# Altium footprint library Miscellaneous Devices LC.PcbLib: 559 footprints (part 8 of 35)
Each footprint in its own frame and in the unit in brackets; x right, y up, seen from the top. Pads: shape width x height; smd on the part's side, far side on the other; paste and mask are expansions set on the pad; w line width, h text height; cw(c..) or ccw(c..) is an arc to the next point about the centre after c.
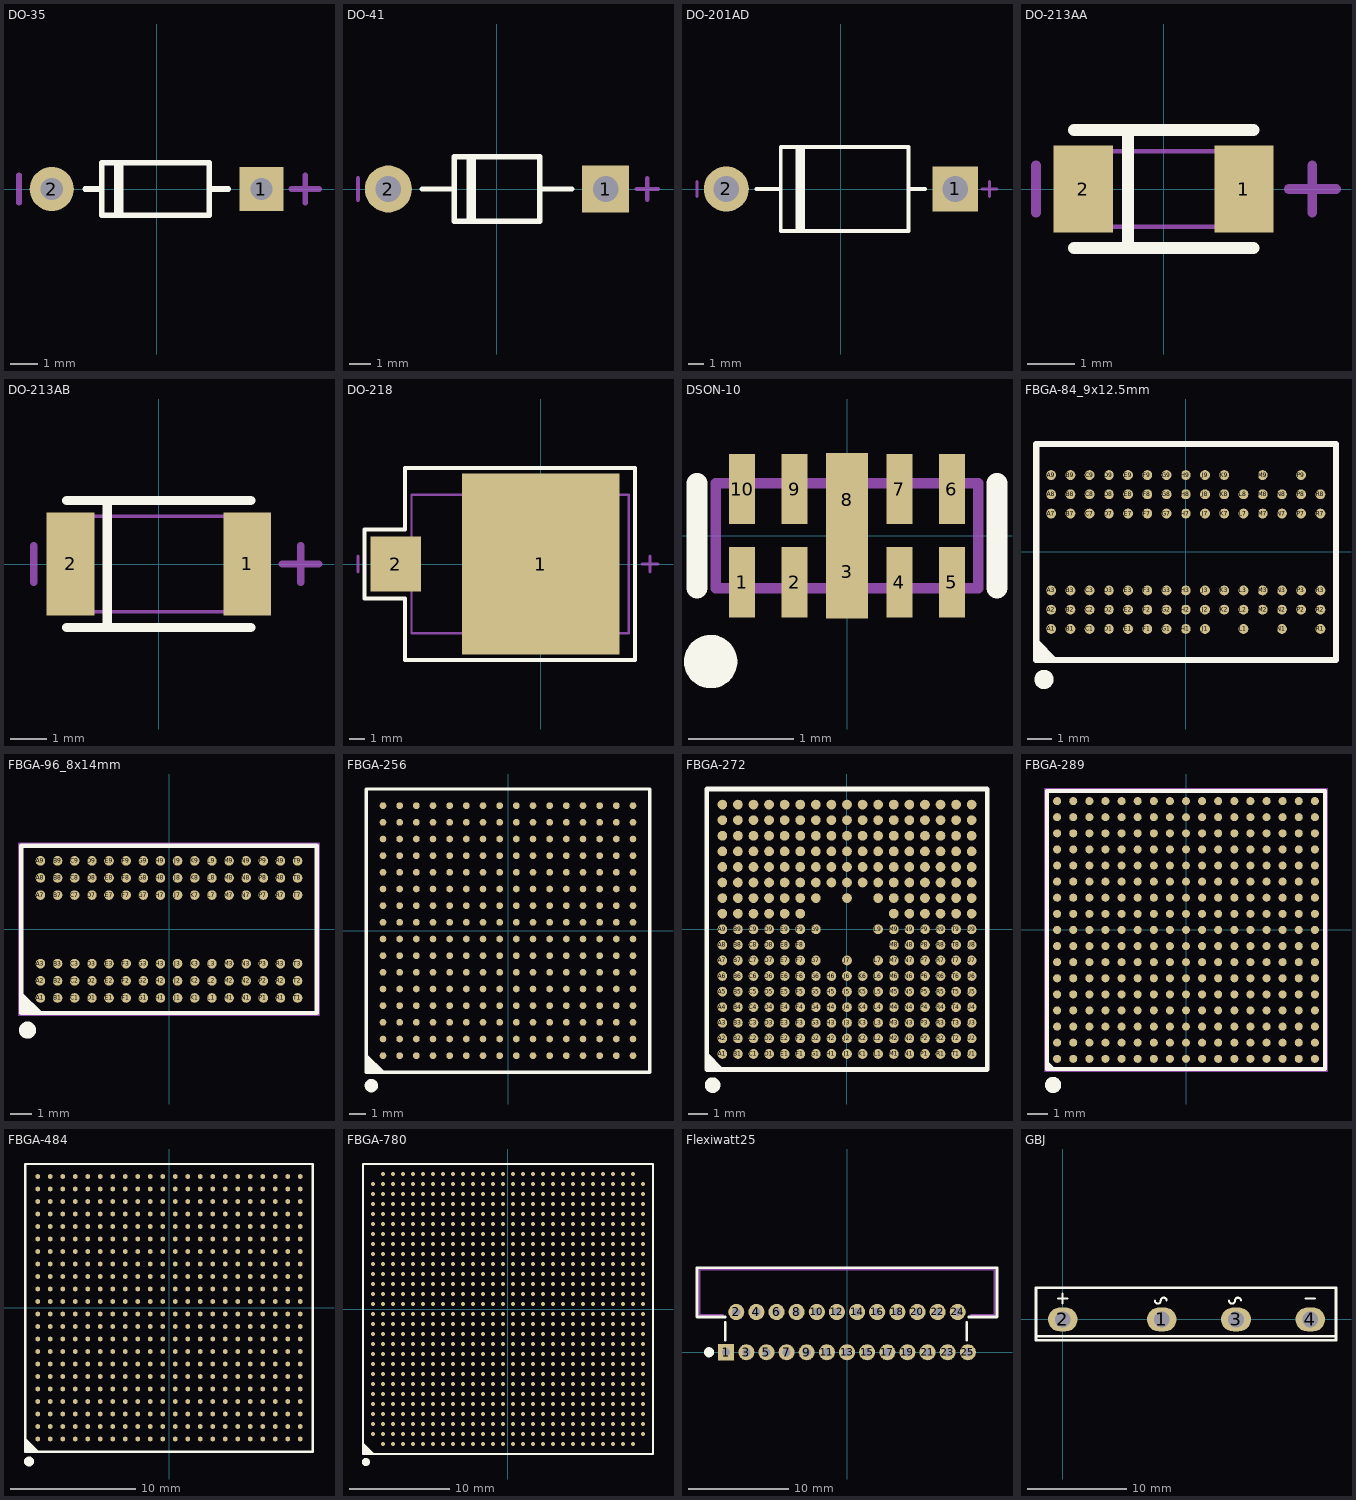
[diagram p7: the footprints below, top view; thin cyan lines are the x and y axes]

## DO-35 [mm]
pads (2):
  rect 1.6x1.6 hole 0.8: 1(3.81,0)
  round 1.6 hole 0.8: 2(-3.81,0)
Top Overlay:
  lines w0.2: -2.6,0 -2.001,0 ; -1.448,-0.95 -1.448,0.95 ; -1.3,-0.95 -1.3,0.95 ; 1.899,-0.95 -2.001,-0.95 -2.001,0.95 1.899,0.95 ; 1.911,-0.95 1.911,0.95 ; 1.911,0 2.6,0
Mechanical 15:
  lines w0.203: -5,-0.5 -5,0.5 ; 4.9,0 5.9,0 ; 5.4,-0.5 5.4,0.5
3D body "DO-35.STEP": height 1.92, standoff -1.9, extent -4.098,-0.888 4.072,0.914

## DO-41 [mm]
pads (2):
  rect 2.2x2.2 hole 1.2: 1(5.08,0)
  round 2.2 hole 1.2: 2(-5.08,0)
Top Overlay:
  lines w0.254: -3.5,0 -2,0 ; -1.3,-1.4 -1.3,1.5 ; -1.1,-1.5 -1.1,1.4 ; 2,0 3.5,0 ; -2,-1.5 -2,1.5 2,1.5 2,-1.5 -2,-1.5
Mechanical 15:
  lines w0.203: -6.5,-0.5 -6.5,0.5 ; 6.53,0 7.53,0 ; 7.03,-0.5 7.03,0.5
3D body "DO-41.STEP": height 3.35, standoff -2, extent -5.51,-1.35 5.51,1.35

## DO-201AD [mm]
pads (2):
  rect 3x3 hole 1.7: 1(7.62,0)
  round 3 hole 1.7: 2(-7.62,0)
Top Overlay:
  lines w0.254: -5.6,0 -4,0 ; -2.9,-2.8 -2.9,2.8 ; -2.7,-2.8 -2.7,2.8 ; -2.5,-2.8 -2.5,2.8 ; 4.5,0 5.6,0 ; -4,-2.8 4.5,-2.8 4.5,2.8 -4,2.8 -4,-2.8
Mechanical 15:
  lines w0.203: -9.57,-0.5 -9.57,0.5 ; 9.4,0 10.4,0 ; 9.9,-0.5 9.9,0.5
3D body "DO-201AD.STEP": height 6.6, standoff -5, extent -8.28,-2.8 8.28,2.8

## DO-213AA [mm]
pads (2):
  rect 1.25x1.85 smd: 1(1.7,0) 2(-1.7,0)
Top Overlay:
  lines w0.254: -1.9,-1.25 1.9,-1.25 ; -1.9,1.25 1.9,1.25 ; -0.75,-1.25 -0.75,1.25
Mechanical 13:
  lines w0.1: -1.8,-0.8 -1.8,0.8 1.8,0.8 1.8,-0.8 -1.8,-0.8
Mechanical 15:
  lines w0.203: -2.7,-0.5 -2.7,0.5 ; 2.65,0 3.65,0 ; 3.15,-0.5 3.15,0.5

## DO-213AB [mm]
pads (2):
  rect 1.3x2.8 smd: 1(2.4,0) 2(-2.4,0)
Top Overlay:
  lines w0.254: -2.5,-1.725 2.5,-1.725 ; -2.5,1.725 2.5,1.725 ; -1.4,-1.725 -1.4,1.7
Mechanical 13:
  lines w0.1: -2.5,-1.3 2.5,-1.3 2.5,1.3 -2.5,1.3 -2.5,-1.3
Mechanical 15:
  lines w0.203: -3.4,-0.5 -3.4,0.5 ; 3.35,0 4.35,0 ; 3.85,-0.5 3.85,0.5

## DO-218 [mm] "=DO-218AB"
pads (2):
  rect 10x11.5 smd: 1(0,0)
  rect 3.2x3.5 smd: 2(-9.2,0)
Top Overlay:
  lines w0.254: -11.2,-2.2 -11.2,2.2 -8.6,2.2 -8.6,6.1 6,6.1 6,-6.1 -8.6,-6.1 -8.6,-2.2 -11.2,-2.2
Mechanical 13:
  lines w0.152: -8.2,-4.4 -8.2,4.4 5.6,4.4 5.6,-4.4 -8.2,-4.4
Mechanical 15:
  lines w0.203: -11.6,-0.5 -11.6,0.5 ; 6.45,0 7.45,0 ; 6.95,-0.5 6.95,0.5
3D body "User Library-DO-218AB.STEP": height 5, standoff 0, extent -9.8,-5 5.629,5

## DSON-10 [mm]
pads (10):
  rect 0.25x0.67 smd mask+0.051: 1(-1,-0.445) 2(-0.5,-0.445) 4(0.5,-0.445) 5(1,-0.445) 6(1,0.445) 7(0.5,0.445) 9(-0.5,0.445) 10(-1,0.445)
  rect 0.4x0.889 smd mask+0.051: 3(0,-0.343) 8(0,0.343)
Top Overlay:
  circle w0.254: c-1.3,-1.2 r0.127
  lines w0.2: -1.43,-0.5 -1.43,0.5 ; 1.43,-0.5 1.43,0.5
Mechanical 13:
  lines w0.1: -1.25,-0.5 -1.25,0.5 1.25,0.5 1.25,-0.5 -1.25,-0.5

## FBGA-84_9x12.5mm [mm]
pads (84):
  round 0.41 smd mask+0.051: A1(-5.6,-3.2) A2(-5.6,-2.4) A3(-5.6,-1.6) A7(-5.6,1.6) A8(-5.6,2.4) A9(-5.6,3.2) B1(-4.8,-3.2) B2(-4.8,-2.4) B3(-4.8,-1.6) B7(-4.8,1.6) B8(-4.8,2.4) B9(-4.8,3.2) C1(-4,-3.2) C2(-4,-2.4) C3(-4,-1.6) C7(-4,1.6) C8(-4,2.4) C9(-4,3.2) D1(-3.2,-3.2) D2(-3.2,-2.4) D3(-3.2,-1.6) D7(-3.2,1.6) D8(-3.2,2.4) D9(-3.2,3.2) E1(-2.4,-3.2) E2(-2.4,-2.4) E3(-2.4,-1.6) E7(-2.4,1.6) E8(-2.4,2.4) E9(-2.4,3.2) F1(-1.6,-3.2) F2(-1.6,-2.4) F3(-1.6,-1.6) F7(-1.6,1.6) F8(-1.6,2.4) F9(-1.6,3.2) G1(-0.8,-3.2) G2(-0.8,-2.4) G3(-0.8,-1.6) G7(-0.8,1.6) G8(-0.8,2.4) G9(-0.8,3.2) H1(0,-3.2) H2(0,-2.4) H3(0,-1.6) H7(0,1.6) H8(0,2.4) H9(0,3.2) J1(0.8,-3.2) J2(0.8,-2.4) J3(0.8,-1.6) J7(0.8,1.6) J8(0.8,2.4) J9(0.8,3.2) K2(1.6,-2.4) K3(1.6,-1.6) K7(1.6,1.6) K8(1.6,2.4) K9(1.6,3.2) L1(2.4,-3.2) L2(2.4,-2.4) L3(2.4,-1.6) L7(2.4,1.6) L8(2.4,2.4) M2(3.2,-2.4) M3(3.2,-1.6) M7(3.2,1.6) M8(3.2,2.4) M9(3.2,3.2) N1(4,-3.2) N2(4,-2.4) N3(4,-1.6) N7(4,1.6) N8(4,2.4) P2(4.8,-2.4) P3(4.8,-1.6) P7(4.8,1.6) P8(4.8,2.4) P9(4.8,3.2) R1(5.6,-3.2) R2(5.6,-2.4) R3(5.6,-1.6) R7(5.6,1.6) R8(5.6,2.4)
Top Overlay:
  circle w0.4: c-5.9,-5.3 r0.2
  region: -6.231,-4.5 -5.3,-4.5 -6.227,-3.573 -6.231,-3.573
  lines w0.254: -6.223,-4.5 6.25,-4.5 6.25,4.5 -6.223,4.5 -6.223,-4.5

## FBGA-96_8x14mm [mm]
pads (96):
  round 0.45 smd mask+0.051: A1(-6,-3.2) A2(-6,-2.4) A3(-6,-1.6) A7(-6,1.6) A8(-6,2.4) A9(-6,3.2) B1(-5.2,-3.2) B2(-5.2,-2.4) B3(-5.2,-1.6) B7(-5.2,1.6) B8(-5.2,2.4) B9(-5.2,3.2) C1(-4.4,-3.2) C2(-4.4,-2.4) C3(-4.4,-1.6) C7(-4.4,1.6) C8(-4.4,2.4) C9(-4.4,3.2) D1(-3.6,-3.2) D2(-3.6,-2.4) D3(-3.6,-1.6) D7(-3.6,1.6) D8(-3.6,2.4) D9(-3.6,3.2) E1(-2.8,-3.2) E2(-2.8,-2.4) E3(-2.8,-1.6) E7(-2.8,1.6) E8(-2.8,2.4) E9(-2.8,3.2) F1(-2,-3.2) F2(-2,-2.4) F3(-2,-1.6) F7(-2,1.6) F8(-2,2.4) F9(-2,3.2) G1(-1.2,-3.2) G2(-1.2,-2.4) G3(-1.2,-1.6) G7(-1.2,1.6) G8(-1.2,2.4) G9(-1.2,3.2) H1(-0.4,-3.2) H2(-0.4,-2.4) H3(-0.4,-1.6) H7(-0.4,1.6) H8(-0.4,2.4) H9(-0.4,3.2) J1(0.4,-3.2) J2(0.4,-2.4) J3(0.4,-1.6) J7(0.4,1.6) J8(0.4,2.4) J9(0.4,3.2) K1(1.2,-3.2) K2(1.2,-2.4) K3(1.2,-1.6) K7(1.2,1.6) K8(1.2,2.4) K9(1.2,3.2) L1(2,-3.2) L2(2,-2.4) L3(2,-1.6) L7(2,1.6) L8(2,2.4) L9(2,3.2) M1(2.8,-3.2) M2(2.8,-2.4) M3(2.8,-1.6) M7(2.8,1.6) M8(2.8,2.4) M9(2.8,3.2) N1(3.6,-3.2) N2(3.6,-2.4) N3(3.6,-1.6) N7(3.6,1.6) N8(3.6,2.4) N9(3.6,3.2) P1(4.4,-3.2) P2(4.4,-2.4) P3(4.4,-1.6) P7(4.4,1.6) P8(4.4,2.4) P9(4.4,3.2) R1(5.2,-3.2) R2(5.2,-2.4) R3(5.2,-1.6) R7(5.2,1.6) R8(5.2,2.4) R9(5.2,3.2) T1(6,-3.2) T2(6,-2.4) T3(6,-1.6) T7(6,1.6) T8(6,2.4) T9(6,3.2)
Top Overlay:
  circle w0.4: c-6.6,-4.7 r0.2
  region: -6.9,-2.9 -5.9,-3.9 -6.9,-3.9
  lines w0.2: -6.9,-3.9 6.9,-3.9 6.9,3.9 -6.9,3.9 -6.9,-3.9
Mechanical 13:
  lines w0.1: -7,-4 -7,4 7,4 7,-4 -7,-4

## FBGA-256 [mm]
pads (256):
  round 0.4 smd mask+0.051: A1(-7.5,-7.5) A2(-7.5,-6.5) A3(-7.5,-5.5) A4(-7.5,-4.5) A5(-7.5,-3.5) A6(-7.5,-2.5) A7(-7.5,-1.5) A8(-7.5,-0.5) A9(-7.5,0.5) A10(-7.5,1.5) A11(-7.5,2.5) A12(-7.5,3.5) A13(-7.5,4.5) A14(-7.5,5.5) A15(-7.5,6.5) A16(-7.5,7.5) B1(-6.5,-7.5) B2(-6.5,-6.5) B3(-6.5,-5.5) B4(-6.5,-4.5) B5(-6.5,-3.5) B6(-6.5,-2.5) B7(-6.5,-1.5) B8(-6.5,-0.5) B9(-6.5,0.5) B10(-6.5,1.5) B11(-6.5,2.5) B12(-6.5,3.5) B13(-6.5,4.5) B14(-6.5,5.5) B15(-6.5,6.5) B16(-6.5,7.5) C1(-5.5,-7.5) C2(-5.5,-6.5) C3(-5.5,-5.5) C4(-5.5,-4.5) C5(-5.5,-3.5) C6(-5.5,-2.5) C7(-5.5,-1.5) C8(-5.5,-0.5) C9(-5.5,0.5) C10(-5.5,1.5) C11(-5.5,2.5) C12(-5.5,3.5) C13(-5.5,4.5) C14(-5.5,5.5) C15(-5.5,6.5) C16(-5.5,7.5) D1(-4.5,-7.5) D2(-4.5,-6.5) D3(-4.5,-5.5) D4(-4.5,-4.5) D5(-4.5,-3.5) D6(-4.5,-2.5) D7(-4.5,-1.5) D8(-4.5,-0.5) D9(-4.5,0.5) D10(-4.5,1.5) D11(-4.5,2.5) D12(-4.5,3.5) D13(-4.5,4.5) D14(-4.5,5.5) D15(-4.5,6.5) D16(-4.5,7.5) E1(-3.5,-7.5) E2(-3.5,-6.5) E3(-3.5,-5.5) E4(-3.5,-4.5) E5(-3.5,-3.5) E6(-3.5,-2.5) E7(-3.5,-1.5) E8(-3.5,-0.5) E9(-3.5,0.5) E10(-3.5,1.5) E11(-3.5,2.5) E12(-3.5,3.5) E13(-3.5,4.5) E14(-3.5,5.5) E15(-3.5,6.5) E16(-3.5,7.5) F1(-2.5,-7.5) F2(-2.5,-6.5) F3(-2.5,-5.5) F4(-2.5,-4.5) F5(-2.5,-3.5) F6(-2.5,-2.5) F7(-2.5,-1.5) F8(-2.5,-0.5) F9(-2.5,0.5) F10(-2.5,1.5) F11(-2.5,2.5) F12(-2.5,3.5) F13(-2.5,4.5) F14(-2.5,5.5) F15(-2.5,6.5) F16(-2.5,7.5) G1(-1.5,-7.5) G2(-1.5,-6.5) G3(-1.5,-5.5) G4(-1.5,-4.5) G5(-1.5,-3.5) G6(-1.5,-2.5) G7(-1.5,-1.5) G8(-1.5,-0.5) G9(-1.5,0.5) G10(-1.5,1.5) G11(-1.5,2.5) G12(-1.5,3.5) G13(-1.5,4.5) G14(-1.5,5.5) G15(-1.5,6.5) G16(-1.5,7.5) H1(-0.5,-7.5) H2(-0.5,-6.5) H3(-0.5,-5.5) H4(-0.5,-4.5) H5(-0.5,-3.5) H6(-0.5,-2.5) H7(-0.5,-1.5) H8(-0.5,-0.5) H9(-0.5,0.5) H10(-0.5,1.5) H11(-0.5,2.5) H12(-0.5,3.5) H13(-0.5,4.5) H14(-0.5,5.5) H15(-0.5,6.5) H16(-0.5,7.5) J1(0.5,-7.5) J2(0.5,-6.5) J3(0.5,-5.5) J4(0.5,-4.5) J5(0.5,-3.5) J6(0.5,-2.5) J7(0.5,-1.5) J8(0.5,-0.5) J9(0.5,0.5) J10(0.5,1.5) J11(0.5,2.5) J12(0.5,3.5) J13(0.5,4.5) J14(0.5,5.5) J15(0.5,6.5) J16(0.5,7.5) K1(1.5,-7.5) K2(1.5,-6.5) K3(1.5,-5.5) K4(1.5,-4.5) K5(1.5,-3.5) K6(1.5,-2.5) K7(1.5,-1.5) K8(1.5,-0.5) K9(1.5,0.5) K10(1.5,1.5) K11(1.5,2.5) K12(1.5,3.5) K13(1.5,4.5) K14(1.5,5.5) K15(1.5,6.5) K16(1.5,7.5) L1(2.5,-7.5) L2(2.5,-6.5) L3(2.5,-5.5) L4(2.5,-4.5) L5(2.5,-3.5) L6(2.5,-2.5) L7(2.5,-1.5) L8(2.5,-0.5) L9(2.5,0.5) L10(2.5,1.5) L11(2.5,2.5) L12(2.5,3.5) L13(2.5,4.5) L14(2.5,5.5) L15(2.5,6.5) L16(2.5,7.5) M1(3.5,-7.5) M2(3.5,-6.5) M3(3.5,-5.5) M4(3.5,-4.5) M5(3.5,-3.5) M6(3.5,-2.5) M7(3.5,-1.5) M8(3.5,-0.5) M9(3.5,0.5) M10(3.5,1.5) M11(3.5,2.5) M12(3.5,3.5) M13(3.5,4.5) M14(3.5,5.5) M15(3.5,6.5) M16(3.5,7.5) N1(4.5,-7.5) N2(4.5,-6.5) N3(4.5,-5.5) N4(4.5,-4.5) N5(4.5,-3.5) N6(4.5,-2.5) N7(4.5,-1.5) N8(4.5,-0.5) N9(4.5,0.5) N10(4.5,1.5) N11(4.5,2.5) N12(4.5,3.5) N13(4.5,4.5) N14(4.5,5.5) N15(4.5,6.5) N16(4.5,7.5) P1(5.5,-7.5) P2(5.5,-6.5) P3(5.5,-5.5) P4(5.5,-4.5) P5(5.5,-3.5) P6(5.5,-2.5) P7(5.5,-1.5) P8(5.5,-0.5) P9(5.5,0.5) P10(5.5,1.5) P11(5.5,2.5) P12(5.5,3.5) P13(5.5,4.5) P14(5.5,5.5) P15(5.5,6.5) P16(5.5,7.5) R1(6.5,-7.5) R2(6.5,-6.5) R3(6.5,-5.5) R4(6.5,-4.5) R5(6.5,-3.5) R6(6.5,-2.5) R7(6.5,-1.5) R8(6.5,-0.5) R9(6.5,0.5) R10(6.5,1.5) R11(6.5,2.5) R12(6.5,3.5) R13(6.5,4.5) R14(6.5,5.5) R15(6.5,6.5) R16(6.5,7.5) T1(7.5,-7.5) T2(7.5,-6.5) T3(7.5,-5.5) T4(7.5,-4.5) T5(7.5,-3.5) T6(7.5,-2.5) T7(7.5,-1.5) T8(7.5,-0.5) T9(7.5,0.5) T10(7.5,1.5) T11(7.5,2.5) T12(7.5,3.5) T13(7.5,4.5) T14(7.5,5.5) T15(7.5,6.5) T16(7.5,7.5)
Top Overlay:
  circle w0.4: c-8.2,-9.3 r0.2
  region: -8.5,-7.5 -7.5,-8.5 -8.5,-8.5
  lines w0.2: -8.5,-7.5 -7.5,-8.5 ; -8.5,-8.5 8.5,-8.5 8.5,8.5 -8.5,8.5 -8.5,-8.5
Mechanical 13:
  lines w0.1: -8.5,-8.5 8.5,-8.5 8.5,8.5 -8.5,8.5 -8.5,-8.5

## FBGA-272 [mm]
pads (272):
  round 0.5 smd mask+0.051: A1(-6.4,-6.4) A2(-6.4,-5.6) A3(-6.4,-4.8) A4(-6.4,-4) A5(-6.4,-3.2) A6(-6.4,-2.4) A7(-6.4,-1.6) A8(-6.4,-0.8) A9(-6.4,0) A10(-6.4,0.8) A11(-6.4,1.6) A12(-6.4,2.4) A13(-6.4,3.2) A14(-6.4,4) A15(-6.4,4.8) A16(-6.4,5.6) A17(-6.4,6.4) B1(-5.6,-6.4) B2(-5.6,-5.6) B3(-5.6,-4.8) B4(-5.6,-4) B5(-5.6,-3.2) B6(-5.6,-2.4) B7(-5.6,-1.6) B8(-5.6,-0.8) B9(-5.6,0) B10(-5.6,0.8) B11(-5.6,1.6) B12(-5.6,2.4) B13(-5.6,3.2) B14(-5.6,4) B15(-5.6,4.8) B16(-5.6,5.6) B17(-5.6,6.4) C1(-4.8,-6.4) C2(-4.8,-5.6) C3(-4.8,-4.8) C4(-4.8,-4) C5(-4.8,-3.2) C6(-4.8,-2.4) C7(-4.8,-1.6) C8(-4.8,-0.8) C9(-4.8,0) C10(-4.8,0.8) C11(-4.8,1.6) C12(-4.8,2.4) C13(-4.8,3.2) C14(-4.8,4) C15(-4.8,4.8) C16(-4.8,5.6) C17(-4.8,6.4) D1(-4,-6.4) D2(-4,-5.6) D3(-4,-4.8) D4(-4,-4) D5(-4,-3.2) D6(-4,-2.4) D7(-4,-1.6) D8(-4,-0.8) D9(-4,0) D10(-4,0.8) D11(-4,1.6) D12(-4,2.4) D13(-4,3.2) D14(-4,4) D15(-4,4.8) D16(-4,5.6) D17(-4,6.4) E1(-3.2,-6.4) E2(-3.2,-5.6) E3(-3.2,-4.8) E4(-3.2,-4) E5(-3.2,-3.2) E6(-3.2,-2.4) E7(-3.2,-1.6) E8(-3.2,-0.8) E9(-3.2,0) E10(-3.2,0.8) E11(-3.2,1.6) E12(-3.2,2.4) E13(-3.2,3.2) E14(-3.2,4) E15(-3.2,4.8) E16(-3.2,5.6) E17(-3.2,6.4) F1(-2.4,-6.4) F2(-2.4,-5.6) F3(-2.4,-4.8) F4(-2.4,-4) F5(-2.4,-3.2) F6(-2.4,-2.4) F7(-2.4,-1.6) F8(-2.4,-0.8) F9(-2.4,0) F10(-2.4,0.8) F11(-2.4,1.6) F12(-2.4,2.4) F13(-2.4,3.2) F14(-2.4,4) F15(-2.4,4.8) F16(-2.4,5.6) F17(-2.4,6.4) G1(-1.6,-6.4) G2(-1.6,-5.6) G3(-1.6,-4.8) G4(-1.6,-4) G5(-1.6,-3.2) G6(-1.6,-2.4) G7(-1.6,-1.6) G9(-1.6,0) G11(-1.6,1.6) G12(-1.6,2.4) G13(-1.6,3.2) G14(-1.6,4) G15(-1.6,4.8) G16(-1.6,5.6) G17(-1.6,6.4) H1(-0.8,-6.4) H2(-0.8,-5.6) H3(-0.8,-4.8) H4(-0.8,-4) H5(-0.8,-3.2) H6(-0.8,-2.4) H12(-0.8,2.4) H13(-0.8,3.2) H14(-0.8,4) H15(-0.8,4.8) H16(-0.8,5.6) H17(-0.8,6.4) J1(0,-6.4) J2(0,-5.6) J3(0,-4.8) J4(0,-4) J5(0,-3.2) J6(0,-2.4) J7(0,-1.6) J11(0,1.6) J12(0,2.4) J13(0,3.2) J14(0,4) J15(0,4.8) J16(0,5.6) J17(0,6.4) K1(0.8,-6.4) K2(0.8,-5.6) K3(0.8,-4.8) K4(0.8,-4) K5(0.8,-3.2) K6(0.8,-2.4) K12(0.8,2.4) K13(0.8,3.2) K14(0.8,4) K15(0.8,4.8) K16(0.8,5.6) K17(0.8,6.4) L1(1.6,-6.4) L2(1.6,-5.6) L3(1.6,-4.8) L4(1.6,-4) L5(1.6,-3.2) L6(1.6,-2.4) L7(1.6,-1.6) L9(1.6,0) L11(1.6,1.6) L12(1.6,2.4) L13(1.6,3.2) L14(1.6,4) L15(1.6,4.8) L16(1.6,5.6) L17(1.6,6.4) M1(2.4,-6.4) M2(2.4,-5.6) M3(2.4,-4.8) M4(2.4,-4) M5(2.4,-3.2) M6(2.4,-2.4) M7(2.4,-1.6) M8(2.4,-0.8) M9(2.4,0) M10(2.4,0.8) M11(2.4,1.6) M12(2.4,2.4) M13(2.4,3.2) M14(2.4,4) M15(2.4,4.8) M16(2.4,5.6) M17(2.4,6.4) N1(3.2,-6.4) N2(3.2,-5.6) N3(3.2,-4.8) N4(3.2,-4) N5(3.2,-3.2) N6(3.2,-2.4) N7(3.2,-1.6) N8(3.2,-0.8) N9(3.2,0) N10(3.2,0.8) N11(3.2,1.6) N12(3.2,2.4) N13(3.2,3.2) N14(3.2,4) N15(3.2,4.8) N16(3.2,5.6) N17(3.2,6.4) P1(4,-6.4) P2(4,-5.6) P3(4,-4.8) P4(4,-4) P5(4,-3.2) P6(4,-2.4) P7(4,-1.6) P8(4,-0.8) P9(4,0) P10(4,0.8) P11(4,1.6) P12(4,2.4) P13(4,3.2) P14(4,4) P15(4,4.8) P16(4,5.6) P17(4,6.4) R1(4.8,-6.4) R2(4.8,-5.6) R3(4.8,-4.8) R4(4.8,-4) R5(4.8,-3.2) R6(4.8,-2.4) R7(4.8,-1.6) R8(4.8,-0.8) R9(4.8,0) R10(4.8,0.8) R11(4.8,1.6) R12(4.8,2.4) R13(4.8,3.2) R14(4.8,4) R15(4.8,4.8) R16(4.8,5.6) R17(4.8,6.4) T1(5.6,-6.4) T2(5.6,-5.6) T3(5.6,-4.8) T4(5.6,-4) T5(5.6,-3.2) T6(5.6,-2.4) T7(5.6,-1.6) T8(5.6,-0.8) T9(5.6,0) T10(5.6,0.8) T11(5.6,1.6) T12(5.6,2.4) T13(5.6,3.2) T14(5.6,4) T15(5.6,4.8) T16(5.6,5.6) T17(5.6,6.4) U1(6.4,-6.4) U2(6.4,-5.6) U3(6.4,-4.8) U4(6.4,-4) U5(6.4,-3.2) U6(6.4,-2.4) U7(6.4,-1.6) U8(6.4,-0.8) U9(6.4,0) U10(6.4,0.8) U11(6.4,1.6) U12(6.4,2.4) U13(6.4,3.2) U14(6.4,4) U15(6.4,4.8) U16(6.4,5.6) U17(6.4,6.4)
Top Overlay:
  circle w0.4: c-6.899,-7.999 r0.2
  region: -7.199,-7.2 -6.399,-7.2 -6.399,-7.1 -7.099,-6.4 -7.199,-6.4 -7.199,-7.199 -6.599,-7.2
  lines w0.254: -7.199,-7.2 7.2,-7.2 7.2,7.2 -7.2,7.2 -7.2,-7.199

## FBGA-289 [mm]
pads (289):
  round 0.4 smd mask+0.051: A1(-6.4,-6.4) A2(-6.4,-5.6) A3(-6.4,-4.8) A4(-6.4,-4) A5(-6.4,-3.2) A6(-6.4,-2.4) A7(-6.4,-1.6) A8(-6.4,-0.8) A9(-6.4,0) A10(-6.4,0.8) A11(-6.4,1.6) A12(-6.4,2.4) A13(-6.4,3.2) A14(-6.4,4) A15(-6.4,4.8) A16(-6.4,5.6) A17(-6.4,6.4) B1(-5.6,-6.4) B2(-5.6,-5.6) B3(-5.6,-4.8) B4(-5.6,-4) B5(-5.6,-3.2) B6(-5.6,-2.4) B7(-5.6,-1.6) B8(-5.6,-0.8) B9(-5.6,0) B10(-5.6,0.8) B11(-5.6,1.6) B12(-5.6,2.4) B13(-5.6,3.2) B14(-5.6,4) B15(-5.6,4.8) B16(-5.6,5.6) B17(-5.6,6.4) C1(-4.8,-6.4) C2(-4.8,-5.6) C3(-4.8,-4.8) C4(-4.8,-4) C5(-4.8,-3.2) C6(-4.8,-2.4) C7(-4.8,-1.6) C8(-4.8,-0.8) C9(-4.8,0) C10(-4.8,0.8) C11(-4.8,1.6) C12(-4.8,2.4) C13(-4.8,3.2) C14(-4.8,4) C15(-4.8,4.8) C16(-4.8,5.6) C17(-4.8,6.4) D1(-4,-6.4) D2(-4,-5.6) D3(-4,-4.8) D4(-4,-4) D5(-4,-3.2) D6(-4,-2.4) D7(-4,-1.6) D8(-4,-0.8) D9(-4,0) D10(-4,0.8) D11(-4,1.6) D12(-4,2.4) D13(-4,3.2) D14(-4,4) D15(-4,4.8) D16(-4,5.6) D17(-4,6.4) E1(-3.2,-6.4) E2(-3.2,-5.6) E3(-3.2,-4.8) E4(-3.2,-4) E5(-3.2,-3.2) E6(-3.2,-2.4) E7(-3.2,-1.6) E8(-3.2,-0.8) E9(-3.2,0) E10(-3.2,0.8) E11(-3.2,1.6) E12(-3.2,2.4) E13(-3.2,3.2) E14(-3.2,4) E15(-3.2,4.8) E16(-3.2,5.6) E17(-3.2,6.4) F1(-2.4,-6.4) F2(-2.4,-5.6) F3(-2.4,-4.8) F4(-2.4,-4) F5(-2.4,-3.2) F6(-2.4,-2.4) F7(-2.4,-1.6) F8(-2.4,-0.8) F9(-2.4,0) F10(-2.4,0.8) F11(-2.4,1.6) F12(-2.4,2.4) F13(-2.4,3.2) F14(-2.4,4) F15(-2.4,4.8) F16(-2.4,5.6) F17(-2.4,6.4) G1(-1.6,-6.4) G2(-1.6,-5.6) G3(-1.6,-4.8) G4(-1.6,-4) G5(-1.6,-3.2) G6(-1.6,-2.4) G7(-1.6,-1.6) G8(-1.6,-0.8) G9(-1.6,0) G10(-1.6,0.8) G11(-1.6,1.6) G12(-1.6,2.4) G13(-1.6,3.2) G14(-1.6,4) G15(-1.6,4.8) G16(-1.6,5.6) G17(-1.6,6.4) H1(-0.8,-6.4) H2(-0.8,-5.6) H3(-0.8,-4.8) H4(-0.8,-4) H5(-0.8,-3.2) H6(-0.8,-2.4) H7(-0.8,-1.6) H8(-0.8,-0.8) H9(-0.8,0) H10(-0.8,0.8) H11(-0.8,1.6) H12(-0.8,2.4) H13(-0.8,3.2) H14(-0.8,4) H15(-0.8,4.8) H16(-0.8,5.6) H17(-0.8,6.4) J1(0,-6.4) J2(0,-5.6) J3(0,-4.8) J4(0,-4) J5(0,-3.2) J6(0,-2.4) J7(0,-1.6) J8(0,-0.8) J9(0,0) J10(0,0.8) J11(0,1.6) J12(0,2.4) J13(0,3.2) J14(0,4) J15(0,4.8) J16(0,5.6) J17(0,6.4) K1(0.8,-6.4) K2(0.8,-5.6) K3(0.8,-4.8) K4(0.8,-4) K5(0.8,-3.2) K6(0.8,-2.4) K7(0.8,-1.6) K8(0.8,-0.8) K9(0.8,0) K10(0.8,0.8) K11(0.8,1.6) K12(0.8,2.4) K13(0.8,3.2) K14(0.8,4) K15(0.8,4.8) K16(0.8,5.6) K17(0.8,6.4) L1(1.6,-6.4) L2(1.6,-5.6) L3(1.6,-4.8) L4(1.6,-4) L5(1.6,-3.2) L6(1.6,-2.4) L7(1.6,-1.6) L8(1.6,-0.8) L9(1.6,0) L10(1.6,0.8) L11(1.6,1.6) L12(1.6,2.4) L13(1.6,3.2) L14(1.6,4) L15(1.6,4.8) L16(1.6,5.6) L17(1.6,6.4) M1(2.4,-6.4) M2(2.4,-5.6) M3(2.4,-4.8) M4(2.4,-4) M5(2.4,-3.2) M6(2.4,-2.4) M7(2.4,-1.6) M8(2.4,-0.8) M9(2.4,0) M10(2.4,0.8) M11(2.4,1.6) M12(2.4,2.4) M13(2.4,3.2) M14(2.4,4) M15(2.4,4.8) M16(2.4,5.6) M17(2.4,6.4) N1(3.2,-6.4) N2(3.2,-5.6) N3(3.2,-4.8) N4(3.2,-4) N5(3.2,-3.2) N6(3.2,-2.4) N7(3.2,-1.6) N8(3.2,-0.8) N9(3.2,0) N10(3.2,0.8) N11(3.2,1.6) N12(3.2,2.4) N13(3.2,3.2) N14(3.2,4) N15(3.2,4.8) N16(3.2,5.6) N17(3.2,6.4) P1(4,-6.4) P2(4,-5.6) P3(4,-4.8) P4(4,-4) P5(4,-3.2) P6(4,-2.4) P7(4,-1.6) P8(4,-0.8) P9(4,0) P10(4,0.8) P11(4,1.6) P12(4,2.4) P13(4,3.2) P14(4,4) P15(4,4.8) P16(4,5.6) P17(4,6.4) R1(4.8,-6.4) R2(4.8,-5.6) R3(4.8,-4.8) R4(4.8,-4) R5(4.8,-3.2) R6(4.8,-2.4) R7(4.8,-1.6) R8(4.8,-0.8) R9(4.8,0) R10(4.8,0.8) R11(4.8,1.6) R12(4.8,2.4) R13(4.8,3.2) R14(4.8,4) R15(4.8,4.8) R16(4.8,5.6) R17(4.8,6.4) T1(5.6,-6.4) T2(5.6,-5.6) T3(5.6,-4.8) T4(5.6,-4) T5(5.6,-3.2) T6(5.6,-2.4) T7(5.6,-1.6) T8(5.6,-0.8) T9(5.6,0) T10(5.6,0.8) T11(5.6,1.6) T12(5.6,2.4) T13(5.6,3.2) T14(5.6,4) T15(5.6,4.8) T16(5.6,5.6) T17(5.6,6.4) U1(6.4,-6.4) U2(6.4,-5.6) U3(6.4,-4.8) U4(6.4,-4) U5(6.4,-3.2) U6(6.4,-2.4) U7(6.4,-1.6) U8(6.4,-0.8) U9(6.4,0) U10(6.4,0.8) U11(6.4,1.6) U12(6.4,2.4) U13(6.4,3.2) U14(6.4,4) U15(6.4,4.8) U16(6.4,5.6) U17(6.4,6.4)
Top Overlay:
  circle w0.4: c-6.6,-7.7 r0.2
  lines w0.2: -6.9,-6.6 -6.6,-6.9 ; -6.9,-6.9 6.9,-6.9 6.9,6.9 -6.9,6.9 -6.9,-6.9
Mechanical 13:
  lines w0.1: -7,-7 7,-7 7,7 -7,7 -7,-7

## FBGA-484 [mm]
pads (484):
  round 0.38 smd mask+0.051: A1(-10.5,-10.5) A2(-10.5,-9.5) A3(-10.5,-8.5) A4(-10.5,-7.5) A5(-10.5,-6.5) A6(-10.5,-5.5) A7(-10.5,-4.5) A8(-10.5,-3.5) A9(-10.5,-2.5) A10(-10.5,-1.5) A11(-10.5,-0.5) A12(-10.5,0.5) A13(-10.5,1.5) A14(-10.5,2.5) A15(-10.5,3.5) A16(-10.5,4.5) A17(-10.5,5.5) A18(-10.5,6.5) A19(-10.5,7.5) A20(-10.5,8.5) A21(-10.5,9.5) A22(-10.5,10.5) AA1(9.5,-10.5) AA2(9.5,-9.5) AA3(9.5,-8.5) AA4(9.5,-7.5) AA5(9.5,-6.5) AA6(9.5,-5.5) AA7(9.5,-4.5) AA8(9.5,-3.5) AA9(9.5,-2.5) AA10(9.5,-1.5) AA11(9.5,-0.5) AA12(9.5,0.5) AA13(9.5,1.5) AA14(9.5,2.5) AA15(9.5,3.5) AA16(9.5,4.5) AA17(9.5,5.5) AA18(9.5,6.5) AA19(9.5,7.5) AA20(9.5,8.5) AA21(9.5,9.5) AA22(9.5,10.5) AB1(10.5,-10.5) AB2(10.5,-9.5) AB3(10.5,-8.5) AB4(10.5,-7.5) AB5(10.5,-6.5) AB6(10.5,-5.5) AB7(10.5,-4.5) AB8(10.5,-3.5) AB9(10.5,-2.5) AB10(10.5,-1.5) AB11(10.5,-0.5) AB12(10.5,0.5) AB13(10.5,1.5) AB14(10.5,2.5) AB15(10.5,3.5) AB16(10.5,4.5) AB17(10.5,5.5) AB18(10.5,6.5) AB19(10.5,7.5) AB20(10.5,8.5) AB21(10.5,9.5) AB22(10.5,10.5) B1(-9.5,-10.5) B2(-9.5,-9.5) B3(-9.5,-8.5) B4(-9.5,-7.5) B5(-9.5,-6.5) B6(-9.5,-5.5) B7(-9.5,-4.5) B8(-9.5,-3.5) B9(-9.5,-2.5) B10(-9.5,-1.5) B11(-9.5,-0.5) B12(-9.5,0.5) B13(-9.5,1.5) B14(-9.5,2.5) B15(-9.5,3.5) B16(-9.5,4.5) B17(-9.5,5.5) B18(-9.5,6.5) B19(-9.5,7.5) B20(-9.5,8.5) B21(-9.5,9.5) B22(-9.5,10.5) C1(-8.5,-10.5) C2(-8.5,-9.5) C3(-8.5,-8.5) C4(-8.5,-7.5) C5(-8.5,-6.5) C6(-8.5,-5.5) C7(-8.5,-4.5) C8(-8.5,-3.5) C9(-8.5,-2.5) C10(-8.5,-1.5) C11(-8.5,-0.5) C12(-8.5,0.5) C13(-8.5,1.5) C14(-8.5,2.5) C15(-8.5,3.5) C16(-8.5,4.5) C17(-8.5,5.5) C18(-8.5,6.5) C19(-8.5,7.5) C20(-8.5,8.5) C21(-8.5,9.5) C22(-8.5,10.5) D1(-7.5,-10.5) D2(-7.5,-9.5) D3(-7.5,-8.5) D4(-7.5,-7.5) D5(-7.5,-6.5) D6(-7.5,-5.5) D7(-7.5,-4.5) D8(-7.5,-3.5) D9(-7.5,-2.5) D10(-7.5,-1.5) D11(-7.5,-0.5) D12(-7.5,0.5) D13(-7.5,1.5) D14(-7.5,2.5) D15(-7.5,3.5) D16(-7.5,4.5) D17(-7.5,5.5) D18(-7.5,6.5) D19(-7.5,7.5) D20(-7.5,8.5) D21(-7.5,9.5) D22(-7.5,10.5) E1(-6.5,-10.5) E2(-6.5,-9.5) E3(-6.5,-8.5) E4(-6.5,-7.5) E5(-6.5,-6.5) E6(-6.5,-5.5) E7(-6.5,-4.5) E8(-6.5,-3.5) E9(-6.5,-2.5) E10(-6.5,-1.5) E11(-6.5,-0.5) E12(-6.5,0.5) E13(-6.5,1.5) E14(-6.5,2.5) E15(-6.5,3.5) E16(-6.5,4.5) E17(-6.5,5.5) E18(-6.5,6.5) E19(-6.5,7.5) E20(-6.5,8.5) E21(-6.5,9.5) E22(-6.5,10.5) F1(-5.5,-10.5) F2(-5.5,-9.5) F3(-5.5,-8.5) F4(-5.5,-7.5) F5(-5.5,-6.5) F6(-5.5,-5.5) F7(-5.5,-4.5) F8(-5.5,-3.5) F9(-5.5,-2.5) F10(-5.5,-1.5) F11(-5.5,-0.5) F12(-5.5,0.5) F13(-5.5,1.5) F14(-5.5,2.5) F15(-5.5,3.5) F16(-5.5,4.5) F17(-5.5,5.5) F18(-5.5,6.5) F19(-5.5,7.5) F20(-5.5,8.5) F21(-5.5,9.5) F22(-5.5,10.5) G1(-4.5,-10.5) G2(-4.5,-9.5) G3(-4.5,-8.5) G4(-4.5,-7.5) G5(-4.5,-6.5) G6(-4.5,-5.5) G7(-4.5,-4.5) G8(-4.5,-3.5) G9(-4.5,-2.5) G10(-4.5,-1.5) G11(-4.5,-0.5) G12(-4.5,0.5) G13(-4.5,1.5) G14(-4.5,2.5) G15(-4.5,3.5) G16(-4.5,4.5) G17(-4.5,5.5) G18(-4.5,6.5) G19(-4.5,7.5) G20(-4.5,8.5) G21(-4.5,9.5) G22(-4.5,10.5) H1(-3.5,-10.5) H2(-3.5,-9.5) H3(-3.5,-8.5) H4(-3.5,-7.5) H5(-3.5,-6.5) H6(-3.5,-5.5) H7(-3.5,-4.5) H8(-3.5,-3.5) H9(-3.5,-2.5) H10(-3.5,-1.5) H11(-3.5,-0.5) H12(-3.5,0.5) H13(-3.5,1.5) H14(-3.5,2.5) H15(-3.5,3.5) H16(-3.5,4.5) H17(-3.5,5.5) H18(-3.5,6.5) H19(-3.5,7.5) H20(-3.5,8.5) H21(-3.5,9.5) H22(-3.5,10.5) J1(-2.5,-10.5) J2(-2.5,-9.5) J3(-2.5,-8.5) J4(-2.5,-7.5) J5(-2.5,-6.5) J6(-2.5,-5.5) J7(-2.5,-4.5) J8(-2.5,-3.5) J9(-2.5,-2.5) J10(-2.5,-1.5) J11(-2.5,-0.5) J12(-2.5,0.5) J13(-2.5,1.5) J14(-2.5,2.5) J15(-2.5,3.5) J16(-2.5,4.5) J17(-2.5,5.5) J18(-2.5,6.5) J19(-2.5,7.5) J20(-2.5,8.5) J21(-2.5,9.5) J22(-2.5,10.5) K1(-1.5,-10.5) K2(-1.5,-9.5) K3(-1.5,-8.5) K4(-1.5,-7.5) K5(-1.5,-6.5) K6(-1.5,-5.5) K7(-1.5,-4.5) K8(-1.5,-3.5) K9(-1.5,-2.5) K10(-1.5,-1.5) K11(-1.5,-0.5) K12(-1.5,0.5) K13(-1.5,1.5) K14(-1.5,2.5) K15(-1.5,3.5) K16(-1.5,4.5) K17(-1.5,5.5) K18(-1.5,6.5) K19(-1.5,7.5) K20(-1.5,8.5) K21(-1.5,9.5) K22(-1.5,10.5) L1(-0.5,-10.5) L2(-0.5,-9.5) L3(-0.5,-8.5) L4(-0.5,-7.5) L5(-0.5,-6.5) L6(-0.5,-5.5) L7(-0.5,-4.5) L8(-0.5,-3.5) L9(-0.5,-2.5) L10(-0.5,-1.5) L11(-0.5,-0.5) L12(-0.5,0.5) L13(-0.5,1.5) L14(-0.5,2.5) L15(-0.5,3.5) L16(-0.5,4.5) L17(-0.5,5.5) L18(-0.5,6.5) L19(-0.5,7.5) L20(-0.5,8.5) L21(-0.5,9.5) L22(-0.5,10.5) M1(0.5,-10.5) M2(0.5,-9.5) M3(0.5,-8.5) M4(0.5,-7.5) M5(0.5,-6.5) M6(0.5,-5.5) M7(0.5,-4.5) M8(0.5,-3.5) M9(0.5,-2.5) M10(0.5,-1.5) M11(0.5,-0.5) M12(0.5,0.5) M13(0.5,1.5) M14(0.5,2.5) M15(0.5,3.5) M16(0.5,4.5) M17(0.5,5.5) M18(0.5,6.5) M19(0.5,7.5) M20(0.5,8.5) M21(0.5,9.5) M22(0.5,10.5) N1(1.5,-10.5) N2(1.5,-9.5) N3(1.5,-8.5) N4(1.5,-7.5) N5(1.5,-6.5) N6(1.5,-5.5) N7(1.5,-4.5) N8(1.5,-3.5) N9(1.5,-2.5) N10(1.5,-1.5) N11(1.5,-0.5) N12(1.5,0.5) N13(1.5,1.5) N14(1.5,2.5) N15(1.5,3.5) N16(1.5,4.5) N17(1.5,5.5) N18(1.5,6.5) N19(1.5,7.5) N20(1.5,8.5) N21(1.5,9.5) N22(1.5,10.5) P1(2.5,-10.5) P2(2.5,-9.5) P3(2.5,-8.5) P4(2.5,-7.5) P5(2.5,-6.5) P6(2.5,-5.5) P7(2.5,-4.5) P8(2.5,-3.5) P9(2.5,-2.5) P10(2.5,-1.5) P11(2.5,-0.5) P12(2.5,0.5) P13(2.5,1.5) P14(2.5,2.5) P15(2.5,3.5) P16(2.5,4.5) P17(2.5,5.5) P18(2.5,6.5) P19(2.5,7.5) P20(2.5,8.5) P21(2.5,9.5) P22(2.5,10.5) R1(3.5,-10.5) R2(3.5,-9.5) R3(3.5,-8.5) R4(3.5,-7.5) R5(3.5,-6.5) R6(3.5,-5.5) R7(3.5,-4.5) R8(3.5,-3.5) R9(3.5,-2.5) R10(3.5,-1.5) R11(3.5,-0.5) R12(3.5,0.5) R13(3.5,1.5) R14(3.5,2.5) R15(3.5,3.5) R16(3.5,4.5) R17(3.5,5.5) R18(3.5,6.5) R19(3.5,7.5) R20(3.5,8.5) R21(3.5,9.5) R22(3.5,10.5) T1(4.5,-10.5) T2(4.5,-9.5) T3(4.5,-8.5) T4(4.5,-7.5) T5(4.5,-6.5) T6(4.5,-5.5) T7(4.5,-4.5) T8(4.5,-3.5) T9(4.5,-2.5) T10(4.5,-1.5) T11(4.5,-0.5) T12(4.5,0.5) T13(4.5,1.5) T14(4.5,2.5) T15(4.5,3.5) T16(4.5,4.5) T17(4.5,5.5) T18(4.5,6.5) T19(4.5,7.5) T20(4.5,8.5) T21(4.5,9.5) T22(4.5,10.5) U1(5.5,-10.5) U2(5.5,-9.5) U3(5.5,-8.5) U4(5.5,-7.5) U5(5.5,-6.5) U6(5.5,-5.5) U7(5.5,-4.5) U8(5.5,-3.5) U9(5.5,-2.5) U10(5.5,-1.5) U11(5.5,-0.5) U12(5.5,0.5) U13(5.5,1.5) U14(5.5,2.5) U15(5.5,3.5) U16(5.5,4.5) U17(5.5,5.5) U18(5.5,6.5) U19(5.5,7.5) U20(5.5,8.5) U21(5.5,9.5) U22(5.5,10.5) V1(6.5,-10.5) V2(6.5,-9.5) V3(6.5,-8.5) V4(6.5,-7.5) V5(6.5,-6.5) V6(6.5,-5.5) V7(6.5,-4.5) V8(6.5,-3.5) V9(6.5,-2.5) V10(6.5,-1.5) V11(6.5,-0.5) V12(6.5,0.5) V13(6.5,1.5) V14(6.5,2.5) V15(6.5,3.5) V16(6.5,4.5) V17(6.5,5.5) V18(6.5,6.5) V19(6.5,7.5) V20(6.5,8.5) V21(6.5,9.5) V22(6.5,10.5) W1(7.5,-10.5) W2(7.5,-9.5) W3(7.5,-8.5) W4(7.5,-7.5) W5(7.5,-6.5) W6(7.5,-5.5) W7(7.5,-4.5) W8(7.5,-3.5) W9(7.5,-2.5) W10(7.5,-1.5) W11(7.5,-0.5) W12(7.5,0.5) W13(7.5,1.5) W14(7.5,2.5) W15(7.5,3.5) W16(7.5,4.5) W17(7.5,5.5) W18(7.5,6.5) W19(7.5,7.5) W20(7.5,8.5) W21(7.5,9.5) W22(7.5,10.5) Y1(8.5,-10.5) Y2(8.5,-9.5) Y3(8.5,-8.5) Y4(8.5,-7.5) Y5(8.5,-6.5) Y6(8.5,-5.5) Y7(8.5,-4.5) Y8(8.5,-3.5) Y9(8.5,-2.5) Y10(8.5,-1.5) Y11(8.5,-0.5) Y12(8.5,0.5) Y13(8.5,1.5) Y14(8.5,2.5) Y15(8.5,3.5) Y16(8.5,4.5) Y17(8.5,5.5) Y18(8.5,6.5) Y19(8.5,7.5) Y20(8.5,8.5) Y21(8.5,9.5) Y22(8.5,10.5)
Top Overlay:
  circle w0.4: c-11.2,-12.3 r0.2
  region: -11.5,-10.5 -10.5,-11.5 -11.5,-11.5
  lines w0.2: -11.5,-10.5 -10.5,-11.5 ; -11.5,-11.5 -11.5,11.5 11.5,11.5 11.5,-11.5 -11.5,-11.5
Mechanical 13:
  lines w0.1: -11.5,-11.5 -11.5,11.5 11.5,11.5 11.5,-11.5 -11.5,-11.5

## FBGA-780 [mm]
pads (780):
  round 0.38 smd mask+0.051: A2(-13.5,-12.5) A3(-13.5,-11.5) A4(-13.5,-10.5) A5(-13.5,-9.5) A6(-13.5,-8.5) A7(-13.5,-7.5) A8(-13.5,-6.5) A9(-13.5,-5.5) A10(-13.5,-4.5) A11(-13.5,-3.5) A12(-13.5,-2.5) A13(-13.5,-1.5) A14(-13.5,-0.5) A15(-13.5,0.5) A16(-13.5,1.5) A17(-13.5,2.5) A18(-13.5,3.5) A19(-13.5,4.5) A20(-13.5,5.5) A21(-13.5,6.5) A22(-13.5,7.5) A23(-13.5,8.5) A24(-13.5,9.5) A25(-13.5,10.5) A26(-13.5,11.5) A27(-13.5,12.5) AA1(6.5,-13.5) AA2(6.5,-12.5) AA3(6.5,-11.5) AA4(6.5,-10.5) AA5(6.5,-9.5) AA6(6.5,-8.5) AA7(6.5,-7.5) AA8(6.5,-6.5) AA9(6.5,-5.5) AA10(6.5,-4.5) AA11(6.5,-3.5) AA12(6.5,-2.5) AA13(6.5,-1.5) AA14(6.5,-0.5) AA15(6.5,0.5) AA16(6.5,1.5) AA17(6.5,2.5) AA18(6.5,3.5) AA19(6.5,4.5) AA20(6.5,5.5) AA21(6.5,6.5) AA22(6.5,7.5) AA23(6.5,8.5) AA24(6.5,9.5) AA25(6.5,10.5) AA26(6.5,11.5) AA27(6.5,12.5) AA28(6.5,13.5) AB1(7.5,-13.5) AB2(7.5,-12.5) AB3(7.5,-11.5) AB4(7.5,-10.5) AB5(7.5,-9.5) AB6(7.5,-8.5) AB7(7.5,-7.5) AB8(7.5,-6.5) AB9(7.5,-5.5) AB10(7.5,-4.5) AB11(7.5,-3.5) AB12(7.5,-2.5) AB13(7.5,-1.5) AB14(7.5,-0.5) AB15(7.5,0.5) AB16(7.5,1.5) AB17(7.5,2.5) AB18(7.5,3.5) AB19(7.5,4.5) AB20(7.5,5.5) AB21(7.5,6.5) AB22(7.5,7.5) AB23(7.5,8.5) AB24(7.5,9.5) AB25(7.5,10.5) AB26(7.5,11.5) AB27(7.5,12.5) AB28(7.5,13.5) AC1(8.5,-13.5) AC2(8.5,-12.5) AC3(8.5,-11.5) AC4(8.5,-10.5) AC5(8.5,-9.5) AC6(8.5,-8.5) AC7(8.5,-7.5) AC8(8.5,-6.5) AC9(8.5,-5.5) AC10(8.5,-4.5) AC11(8.5,-3.5) AC12(8.5,-2.5) AC13(8.5,-1.5) AC14(8.5,-0.5) AC15(8.5,0.5) AC16(8.5,1.5) AC17(8.5,2.5) AC18(8.5,3.5) AC19(8.5,4.5) AC20(8.5,5.5) AC21(8.5,6.5) AC22(8.5,7.5) AC23(8.5,8.5) AC24(8.5,9.5) AC25(8.5,10.5) AC26(8.5,11.5) AC27(8.5,12.5) AC28(8.5,13.5) AD1(9.5,-13.5) AD2(9.5,-12.5) AD3(9.5,-11.5) AD4(9.5,-10.5) AD5(9.5,-9.5) AD6(9.5,-8.5) AD7(9.5,-7.5) AD8(9.5,-6.5) AD9(9.5,-5.5) AD10(9.5,-4.5) AD11(9.5,-3.5) AD12(9.5,-2.5) AD13(9.5,-1.5) AD14(9.5,-0.5) AD15(9.5,0.5) AD16(9.5,1.5) AD17(9.5,2.5) AD18(9.5,3.5) AD19(9.5,4.5) AD20(9.5,5.5) AD21(9.5,6.5) AD22(9.5,7.5) AD23(9.5,8.5) AD24(9.5,9.5) AD25(9.5,10.5) AD26(9.5,11.5) AD27(9.5,12.5) AD28(9.5,13.5) AE1(10.5,-13.5) AE2(10.5,-12.5) AE3(10.5,-11.5) AE4(10.5,-10.5) AE5(10.5,-9.5) AE6(10.5,-8.5) AE7(10.5,-7.5) AE8(10.5,-6.5) AE9(10.5,-5.5) AE10(10.5,-4.5) AE11(10.5,-3.5) AE12(10.5,-2.5) AE13(10.5,-1.5) AE14(10.5,-0.5) AE15(10.5,0.5) AE16(10.5,1.5) AE17(10.5,2.5) AE18(10.5,3.5) AE19(10.5,4.5) AE20(10.5,5.5) AE21(10.5,6.5) AE22(10.5,7.5) AE23(10.5,8.5) AE24(10.5,9.5) AE25(10.5,10.5) AE26(10.5,11.5) AE27(10.5,12.5) AE28(10.5,13.5) AF1(11.5,-13.5) AF2(11.5,-12.5) AF3(11.5,-11.5) AF4(11.5,-10.5) AF5(11.5,-9.5) AF6(11.5,-8.5) AF7(11.5,-7.5) AF8(11.5,-6.5) AF9(11.5,-5.5) AF10(11.5,-4.5) AF11(11.5,-3.5) AF12(11.5,-2.5) AF13(11.5,-1.5) AF14(11.5,-0.5) AF15(11.5,0.5) AF16(11.5,1.5) AF17(11.5,2.5) AF18(11.5,3.5) AF19(11.5,4.5) AF20(11.5,5.5) AF21(11.5,6.5) AF22(11.5,7.5) AF23(11.5,8.5) AF24(11.5,9.5) AF25(11.5,10.5) AF26(11.5,11.5) AF27(11.5,12.5) AF28(11.5,13.5) AG1(12.5,-13.5) AG2(12.5,-12.5) AG3(12.5,-11.5) AG4(12.5,-10.5) AG5(12.5,-9.5) AG6(12.5,-8.5) AG7(12.5,-7.5) AG8(12.5,-6.5) AG9(12.5,-5.5) AG10(12.5,-4.5) AG11(12.5,-3.5) AG12(12.5,-2.5) AG13(12.5,-1.5) AG14(12.5,-0.5) AG15(12.5,0.5) AG16(12.5,1.5) AG17(12.5,2.5) AG18(12.5,3.5) AG19(12.5,4.5) AG20(12.5,5.5) AG21(12.5,6.5) AG22(12.5,7.5) AG23(12.5,8.5) AG24(12.5,9.5) AG25(12.5,10.5) AG26(12.5,11.5) AG27(12.5,12.5) AG28(12.5,13.5) AH2(13.5,-12.5) AH3(13.5,-11.5) AH4(13.5,-10.5) AH5(13.5,-9.5) AH6(13.5,-8.5) AH7(13.5,-7.5) AH8(13.5,-6.5) AH9(13.5,-5.5) AH10(13.5,-4.5) AH11(13.5,-3.5) AH12(13.5,-2.5) AH13(13.5,-1.5) AH14(13.5,-0.5) AH15(13.5,0.5) AH16(13.5,1.5) AH17(13.5,2.5) AH18(13.5,3.5) AH19(13.5,4.5) AH20(13.5,5.5) AH21(13.5,6.5) AH22(13.5,7.5) AH23(13.5,8.5) AH24(13.5,9.5) AH25(13.5,10.5) AH26(13.5,11.5) AH27(13.5,12.5) B1(-12.5,-13.5) B2(-12.5,-12.5) B3(-12.5,-11.5) B4(-12.5,-10.5) B5(-12.5,-9.5) B6(-12.5,-8.5) B7(-12.5,-7.5) B8(-12.5,-6.5) B9(-12.5,-5.5) B10(-12.5,-4.5) B11(-12.5,-3.5) B12(-12.5,-2.5) B13(-12.5,-1.5) B14(-12.5,-0.5) B15(-12.5,0.5) B16(-12.5,1.5) B17(-12.5,2.5) B18(-12.5,3.5) B19(-12.5,4.5) B20(-12.5,5.5) B21(-12.5,6.5) B22(-12.5,7.5) B23(-12.5,8.5) B24(-12.5,9.5) B25(-12.5,10.5) B26(-12.5,11.5) B27(-12.5,12.5) B28(-12.5,13.5) C1(-11.5,-13.5) C2(-11.5,-12.5) C3(-11.5,-11.5) C4(-11.5,-10.5) C5(-11.5,-9.5) C6(-11.5,-8.5) C7(-11.5,-7.5) C8(-11.5,-6.5) C9(-11.5,-5.5) C10(-11.5,-4.5) C11(-11.5,-3.5) C12(-11.5,-2.5) C13(-11.5,-1.5) C14(-11.5,-0.5) C15(-11.5,0.5) C16(-11.5,1.5) C17(-11.5,2.5) C18(-11.5,3.5) C19(-11.5,4.5) C20(-11.5,5.5) C21(-11.5,6.5) C22(-11.5,7.5) C23(-11.5,8.5) C24(-11.5,9.5) C25(-11.5,10.5) C26(-11.5,11.5) C27(-11.5,12.5) C28(-11.5,13.5) D1(-10.5,-13.5) D2(-10.5,-12.5) D3(-10.5,-11.5) D4(-10.5,-10.5) D5(-10.5,-9.5) D6(-10.5,-8.5) D7(-10.5,-7.5) D8(-10.5,-6.5) D9(-10.5,-5.5) D10(-10.5,-4.5) D11(-10.5,-3.5) D12(-10.5,-2.5) D13(-10.5,-1.5) D14(-10.5,-0.5) D15(-10.5,0.5) D16(-10.5,1.5) D17(-10.5,2.5) D18(-10.5,3.5) D19(-10.5,4.5) D20(-10.5,5.5) D21(-10.5,6.5) D22(-10.5,7.5) D23(-10.5,8.5) D24(-10.5,9.5) D25(-10.5,10.5) D26(-10.5,11.5) D27(-10.5,12.5) D28(-10.5,13.5) E1(-9.5,-13.5) E2(-9.5,-12.5) E3(-9.5,-11.5) E4(-9.5,-10.5) E5(-9.5,-9.5) E6(-9.5,-8.5) E7(-9.5,-7.5) E8(-9.5,-6.5) E9(-9.5,-5.5) E10(-9.5,-4.5) E11(-9.5,-3.5) E12(-9.5,-2.5) E13(-9.5,-1.5) E14(-9.5,-0.5) E15(-9.5,0.5) E16(-9.5,1.5) E17(-9.5,2.5) E18(-9.5,3.5) E19(-9.5,4.5) E20(-9.5,5.5) E21(-9.5,6.5) E22(-9.5,7.5) E23(-9.5,8.5) E24(-9.5,9.5) E25(-9.5,10.5) E26(-9.5,11.5) E27(-9.5,12.5) E28(-9.5,13.5) F1(-8.5,-13.5) F2(-8.5,-12.5) F3(-8.5,-11.5) F4(-8.5,-10.5) F5(-8.5,-9.5) F6(-8.5,-8.5) F7(-8.5,-7.5) F8(-8.5,-6.5) F9(-8.5,-5.5) F10(-8.5,-4.5) F11(-8.5,-3.5) F12(-8.5,-2.5) F13(-8.5,-1.5) F14(-8.5,-0.5) F15(-8.5,0.5) F16(-8.5,1.5) F17(-8.5,2.5) F18(-8.5,3.5) F19(-8.5,4.5) F20(-8.5,5.5) F21(-8.5,6.5) F22(-8.5,7.5) F23(-8.5,8.5) F24(-8.5,9.5) F25(-8.5,10.5) F26(-8.5,11.5) F27(-8.5,12.5) F28(-8.5,13.5) G1(-7.5,-13.5) G2(-7.5,-12.5) G3(-7.5,-11.5) G4(-7.5,-10.5) G5(-7.5,-9.5) G6(-7.5,-8.5) G7(-7.5,-7.5) G8(-7.5,-6.5) G9(-7.5,-5.5) G10(-7.5,-4.5) G11(-7.5,-3.5) G12(-7.5,-2.5) G13(-7.5,-1.5) G14(-7.5,-0.5) G15(-7.5,0.5) G16(-7.5,1.5) G17(-7.5,2.5) G18(-7.5,3.5) G19(-7.5,4.5) G20(-7.5,5.5) G21(-7.5,6.5) G22(-7.5,7.5) G23(-7.5,8.5) G24(-7.5,9.5) G25(-7.5,10.5) G26(-7.5,11.5) G27(-7.5,12.5) G28(-7.5,13.5) H1(-6.5,-13.5) H2(-6.5,-12.5) H3(-6.5,-11.5) H4(-6.5,-10.5) H5(-6.5,-9.5) H6(-6.5,-8.5) H7(-6.5,-7.5) H8(-6.5,-6.5) H9(-6.5,-5.5) H10(-6.5,-4.5) H11(-6.5,-3.5) H12(-6.5,-2.5) H13(-6.5,-1.5) H14(-6.5,-0.5) H15(-6.5,0.5) H16(-6.5,1.5) H17(-6.5,2.5) H18(-6.5,3.5) H19(-6.5,4.5) H20(-6.5,5.5) H21(-6.5,6.5) H22(-6.5,7.5) H23(-6.5,8.5) H24(-6.5,9.5) H25(-6.5,10.5) H26(-6.5,11.5) H27(-6.5,12.5) H28(-6.5,13.5) J1(-5.5,-13.5) J2(-5.5,-12.5) J3(-5.5,-11.5) J4(-5.5,-10.5) J5(-5.5,-9.5) J6(-5.5,-8.5) J7(-5.5,-7.5) J8(-5.5,-6.5) J9(-5.5,-5.5) J10(-5.5,-4.5) J11(-5.5,-3.5) J12(-5.5,-2.5) J13(-5.5,-1.5) J14(-5.5,-0.5) J15(-5.5,0.5) J16(-5.5,1.5) J17(-5.5,2.5) J18(-5.5,3.5) J19(-5.5,4.5) J20(-5.5,5.5) J21(-5.5,6.5) J22(-5.5,7.5) J23(-5.5,8.5) J24(-5.5,9.5) J25(-5.5,10.5) J26(-5.5,11.5) J27(-5.5,12.5) J28(-5.5,13.5) K1(-4.5,-13.5) K2(-4.5,-12.5) K3(-4.5,-11.5) K4(-4.5,-10.5) K5(-4.5,-9.5) K6(-4.5,-8.5) K7(-4.5,-7.5) K8(-4.5,-6.5) K9(-4.5,-5.5) K10(-4.5,-4.5) K11(-4.5,-3.5) K12(-4.5,-2.5) K13(-4.5,-1.5) K14(-4.5,-0.5) K15(-4.5,0.5) K16(-4.5,1.5) K17(-4.5,2.5) K18(-4.5,3.5) K19(-4.5,4.5) K20(-4.5,5.5) K21(-4.5,6.5) K22(-4.5,7.5) K23(-4.5,8.5) K24(-4.5,9.5) K25(-4.5,10.5) K26(-4.5,11.5) K27(-4.5,12.5) K28(-4.5,13.5) L1(-3.5,-13.5) L2(-3.5,-12.5) L3(-3.5,-11.5) L4(-3.5,-10.5) L5(-3.5,-9.5) L6(-3.5,-8.5) L7(-3.5,-7.5) L8(-3.5,-6.5) L9(-3.5,-5.5) L10(-3.5,-4.5) L11(-3.5,-3.5) L12(-3.5,-2.5) L13(-3.5,-1.5) L14(-3.5,-0.5) L15(-3.5,0.5) L16(-3.5,1.5) L17(-3.5,2.5) L18(-3.5,3.5) L19(-3.5,4.5) L20(-3.5,5.5) L21(-3.5,6.5) L22(-3.5,7.5) L23(-3.5,8.5) L24(-3.5,9.5) L25(-3.5,10.5) L26(-3.5,11.5) L27(-3.5,12.5) L28(-3.5,13.5) M1(-2.5,-13.5) M2(-2.5,-12.5) M3(-2.5,-11.5) M4(-2.5,-10.5) M5(-2.5,-9.5) M6(-2.5,-8.5) M7(-2.5,-7.5) M8(-2.5,-6.5) M9(-2.5,-5.5) M10(-2.5,-4.5) M11(-2.5,-3.5) M12(-2.5,-2.5) M13(-2.5,-1.5) M14(-2.5,-0.5) M15(-2.5,0.5) M16(-2.5,1.5) M17(-2.5,2.5) M18(-2.5,3.5) M19(-2.5,4.5) M20(-2.5,5.5) M21(-2.5,6.5) M22(-2.5,7.5) M23(-2.5,8.5) M24(-2.5,9.5) M25(-2.5,10.5) M26(-2.5,11.5) M27(-2.5,12.5) M28(-2.5,13.5) N1(-1.5,-13.5) N2(-1.5,-12.5) N3(-1.5,-11.5) N4(-1.5,-10.5) N5(-1.5,-9.5) N6(-1.5,-8.5) N7(-1.5,-7.5) N8(-1.5,-6.5) N9(-1.5,-5.5) N10(-1.5,-4.5) N11(-1.5,-3.5) N12(-1.5,-2.5) N13(-1.5,-1.5) N14(-1.5,-0.5) N15(-1.5,0.5) N16(-1.5,1.5) N17(-1.5,2.5) N18(-1.5,3.5) N19(-1.5,4.5) N20(-1.5,5.5) N21(-1.5,6.5) N22(-1.5,7.5) N23(-1.5,8.5) N24(-1.5,9.5) N25(-1.5,10.5) N26(-1.5,11.5) N27(-1.5,12.5) N28(-1.5,13.5) P1(-0.5,-13.5) P2(-0.5,-12.5) P3(-0.5,-11.5) P4(-0.5,-10.5) P5(-0.5,-9.5) P6(-0.5,-8.5) P7(-0.5,-7.5) P8(-0.5,-6.5) P9(-0.5,-5.5) P10(-0.5,-4.5) P11(-0.5,-3.5) P12(-0.5,-2.5) P13(-0.5,-1.5) P14(-0.5,-0.5) P15(-0.5,0.5) P16(-0.5,1.5) P17(-0.5,2.5) P18(-0.5,3.5) P19(-0.5,4.5) P20(-0.5,5.5) P21(-0.5,6.5) P22(-0.5,7.5) P23(-0.5,8.5) P24(-0.5,9.5) P25(-0.5,10.5) P26(-0.5,11.5) P27(-0.5,12.5) P28(-0.5,13.5) R1(0.5,-13.5) R2(0.5,-12.5) R3(0.5,-11.5) R4(0.5,-10.5) R5(0.5,-9.5) R6(0.5,-8.5) R7(0.5,-7.5) R8(0.5,-6.5) R9(0.5,-5.5) R10(0.5,-4.5) R11(0.5,-3.5) R12(0.5,-2.5) R13(0.5,-1.5) R14(0.5,-0.5) R15(0.5,0.5) R16(0.5,1.5) R17(0.5,2.5) R18(0.5,3.5) R19(0.5,4.5) R20(0.5,5.5) R21(0.5,6.5) R22(0.5,7.5) R23(0.5,8.5) R24(0.5,9.5) R25(0.5,10.5) R26(0.5,11.5) R27(0.5,12.5) R28(0.5,13.5) T1(1.5,-13.5) T2(1.5,-12.5) T3(1.5,-11.5) T4(1.5,-10.5) T5(1.5,-9.5) T6(1.5,-8.5) T7(1.5,-7.5) T8(1.5,-6.5) T9(1.5,-5.5) T10(1.5,-4.5) T11(1.5,-3.5) T12(1.5,-2.5) T13(1.5,-1.5) T14(1.5,-0.5) T15(1.5,0.5) T16(1.5,1.5) T17(1.5,2.5) T18(1.5,3.5) T19(1.5,4.5) T20(1.5,5.5) T21(1.5,6.5) T22(1.5,7.5) T23(1.5,8.5) T24(1.5,9.5) T25(1.5,10.5) T26(1.5,11.5) T27(1.5,12.5) T28(1.5,13.5) U1(2.5,-13.5) U2(2.5,-12.5) U3(2.5,-11.5) U4(2.5,-10.5) U5(2.5,-9.5) U6(2.5,-8.5) U7(2.5,-7.5) U8(2.5,-6.5) U9(2.5,-5.5) U10(2.5,-4.5) U11(2.5,-3.5) U12(2.5,-2.5) U13(2.5,-1.5) U14(2.5,-0.5) U15(2.5,0.5) U16(2.5,1.5) U17(2.5,2.5) U18(2.5,3.5) U19(2.5,4.5) U20(2.5,5.5) U21(2.5,6.5) U22(2.5,7.5) U23(2.5,8.5) U24(2.5,9.5) U25(2.5,10.5) U26(2.5,11.5) U27(2.5,12.5) U28(2.5,13.5) V1(3.5,-13.5) V2(3.5,-12.5) V3(3.5,-11.5) V4(3.5,-10.5) V5(3.5,-9.5) V6(3.5,-8.5) V7(3.5,-7.5) V8(3.5,-6.5) V9(3.5,-5.5) V10(3.5,-4.5) V11(3.5,-3.5) V12(3.5,-2.5) V13(3.5,-1.5) V14(3.5,-0.5) V15(3.5,0.5) V16(3.5,1.5) V17(3.5,2.5) V18(3.5,3.5) V19(3.5,4.5) V20(3.5,5.5) V21(3.5,6.5) V22(3.5,7.5) V23(3.5,8.5) V24(3.5,9.5) V25(3.5,10.5) V26(3.5,11.5) V27(3.5,12.5) V28(3.5,13.5) W1(4.5,-13.5) W2(4.5,-12.5) W3(4.5,-11.5) W4(4.5,-10.5) W5(4.5,-9.5) W6(4.5,-8.5) W7(4.5,-7.5) W8(4.5,-6.5) W9(4.5,-5.5) W10(4.5,-4.5) W11(4.5,-3.5) W12(4.5,-2.5) W13(4.5,-1.5) W14(4.5,-0.5) W15(4.5,0.5) W16(4.5,1.5) W17(4.5,2.5) W18(4.5,3.5) W19(4.5,4.5) W20(4.5,5.5) W21(4.5,6.5) W22(4.5,7.5) W23(4.5,8.5) W24(4.5,9.5) W25(4.5,10.5) W26(4.5,11.5) W27(4.5,12.5) W28(4.5,13.5) Y1(5.5,-13.5) Y2(5.5,-12.5) Y3(5.5,-11.5) Y4(5.5,-10.5) Y5(5.5,-9.5) Y6(5.5,-8.5) Y7(5.5,-7.5) Y8(5.5,-6.5) Y9(5.5,-5.5) Y10(5.5,-4.5) Y11(5.5,-3.5) Y12(5.5,-2.5) Y13(5.5,-1.5) Y14(5.5,-0.5) Y15(5.5,0.5) Y16(5.5,1.5) Y17(5.5,2.5) Y18(5.5,3.5) Y19(5.5,4.5) Y20(5.5,5.5) Y21(5.5,6.5) Y22(5.5,7.5) Y23(5.5,8.5) Y24(5.5,9.5) Y25(5.5,10.5) Y26(5.5,11.5) Y27(5.5,12.5) Y28(5.5,13.5)
Top Overlay:
  circle w0.4: c-14.2,-15.3 r0.2
  region: -14.5,-13.5 -13.5,-14.5 -14.5,-14.5
  lines w0.2: -14.5,-13.5 -13.5,-14.5 ; -14.5,-14.5 14.5,-14.5 14.5,14.5 -14.5,14.5 -14.5,-14.5
Mechanical 13:
  lines w0.1: -14.5,-14.5 14.5,-14.5 14.5,14.5 -14.5,14.5 -14.5,-14.5

## Flexiwatt25 [mm] "Stepping Motor Driver IC"
pads (25):
  rect 1.6x1.6 hole 0.8: 1(-12,0)
  round 1.6 hole 0.8: 2(-11,4) 3(-10,0) 4(-9,4) 5(-8,0) 6(-7,4) 7(-6,0) 8(-5,4) 9(-4,0) 10(-3,4) 11(-2,0) 12(-1,4) 13(0,0) 14(1,4) 15(2,0) 16(3,4) 17(4,0) 18(5,4) 19(6,0) 20(7,4) 21(8,0) 22(9,4) 23(10,0) 24(11,4) 25(12,0)
Top Overlay:
  circle w0.5: c-13.7,0 r0.25
  lines w0.254: -12.1,1.2 -12.1,3 ; -12.1,3.5 -14.9,3.5 -14.9,8.4 14.9,8.4 14.9,3.5 12.1,3.5 ; 11.9,1.2 11.9,3
Mechanical 13:
  lines w0.2: -12.3,3.7 -14.65,3.7 -14.65,8.2 14.65,8.2 14.65,3.7 12.3,3.7

## GBJ [mm]
pads (4):
  oval 3x2.4 hole 1.6: 1(10,0) 2(0,0) 3(17.5,0) 4(25,0)
Top Overlay:
  lines w0.203: -0.5,2.1 0.5,2.1 ; 0,1.6 0,2.6 ; 9.3,1.9 ccw(c9.6,1.9) 9.9,1.9 cw(c10.2,1.9) 10.5,1.9 ; 16.8,1.9 ccw(c17.1,1.9) 17.4,1.9 cw(c17.7,1.9) 18,1.9 ; 24.5,2.1 25.5,2.1
  lines w0.254: -2.7,-1.7 27.6,-1.7 ; -2.7,-2.1 -2.7,3.2 27.6,3.2 27.6,-2.1 -2.7,-2.1